# EAGLE library part DSPIC33FJ*MC708 (library Microchip)
dsPIC High-Performance 16-Bit Digital Signal Controller
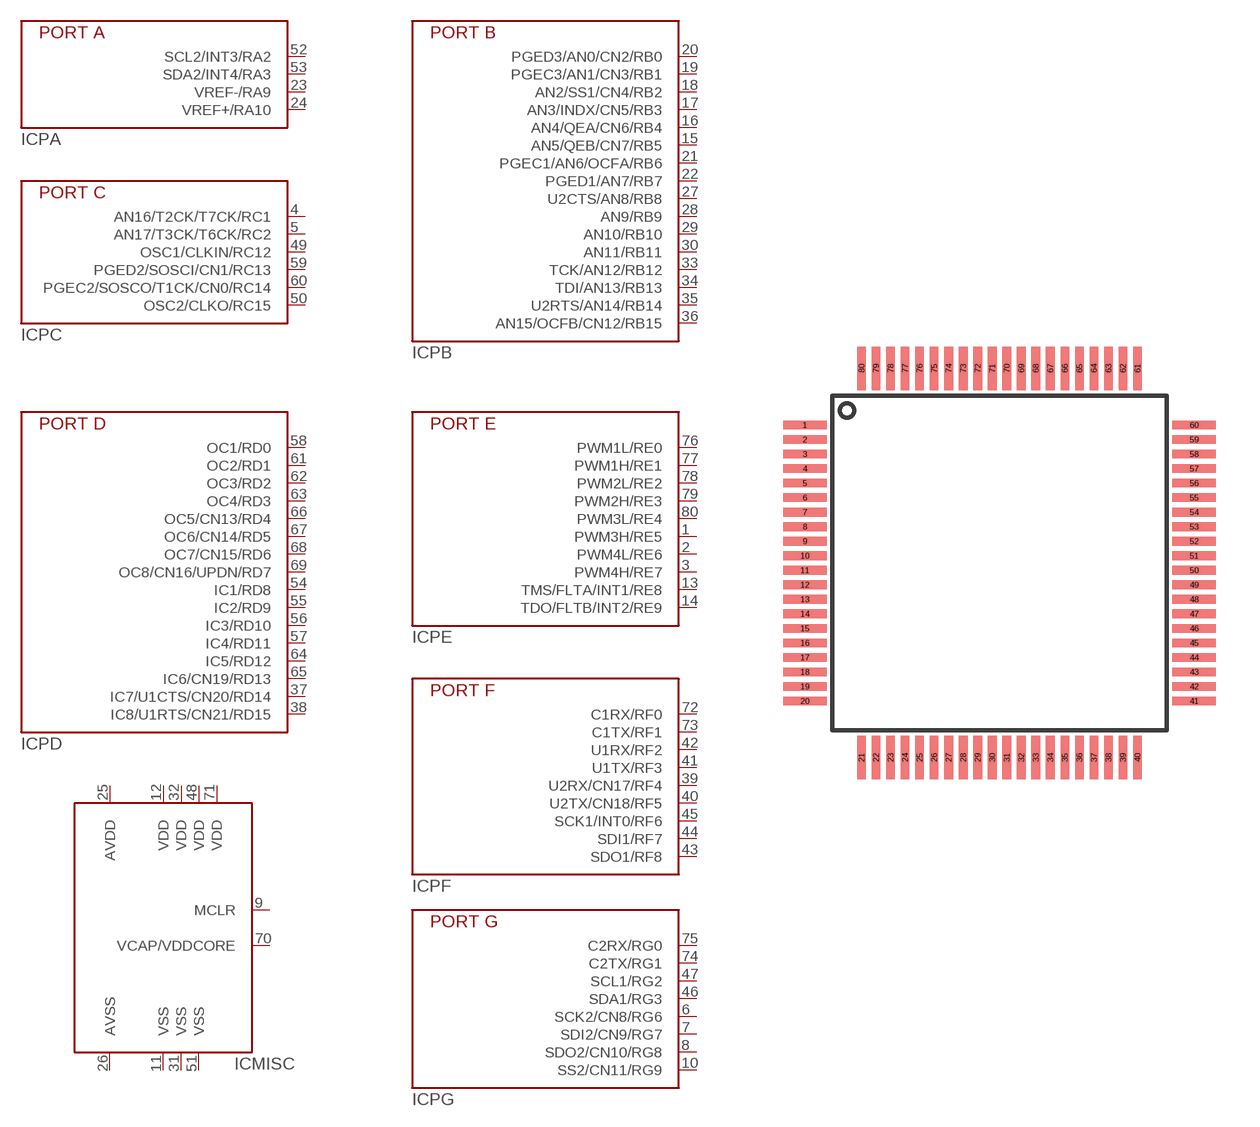
[diagram p28: symbol with the pads of TQ80-PT; footprint TQ80-PT]

Designator prefix IC; gates PA=DSPIC33FJXXXMC708-PA PB=DSPIC33FJXXXMC708-PB PC=DSPIC33FJXXXMC708-PC PD=DSPIC33FJXXXMC708-PD PE=DSPIC33FJXXXMC708-PE PF=DSPIC33FJXXXMC708-PF PG=DSPIC33FJXXXMC708-PG MISC=DSPIC33FJXXXMC708-MISC

## DSPIC33FJ64MC708-PT, DSPIC33FJ128MC708-PT  [TQ80-PT]
1  PE:PWM3H/RE5
2  PE:PWM4L/RE6
3  PE:PWM4H/RE7
4  PC:AN16/T2CK/T7CK/RC1
5  PC:AN17/T3CK/T6CK/RC2
6  PG:SCK2/CN8/RG6
7  PG:SDI2/CN9/RG7
8  PG:SDO2/CN10/RG8
9  MISC:MCLR
10  PG:SS2/CN11/RG9
11  MISC:VSS
12  MISC:VDD
13  PE:TMS/FLTA/INT1/RE8
14  PE:TDO/FLTB/INT2/RE9
15  PB:AN5/QEB/CN7/RB5
16  PB:AN4/QEA/CN6/RB4
17  PB:AN3/INDX/CN5/RB3
18  PB:AN2/SS1/CN4/RB2
19  PB:PGEC3/AN1/CN3/RB1
20  PB:PGED3/AN0/CN2/RB0
21  PB:PGEC1/AN6/OCFA/RB6
22  PB:PGED1/AN7/RB7
23  PA:VREF-/RA9
24  PA:VREF+/RA10
25  MISC:AVDD
26  MISC:AVSS
27  PB:U2CTS/AN8/RB8
28  PB:AN9/RB9
29  PB:AN10/RB10
30  PB:AN11/RB11
31  MISC:VSS
32  MISC:VDD
33  PB:TCK/AN12/RB12
34  PB:TDI/AN13/RB13
35  PB:U2RTS/AN14/RB14
36  PB:AN15/OCFB/CN12/RB15
37  PD:IC7/U1CTS/CN20/RD14
38  PD:IC8/U1RTS/CN21/RD15
39  PF:U2RX/CN17/RF4
40  PF:U2TX/CN18/RF5
41  PF:U1TX/RF3
42  PF:U1RX/RF2
43  PF:SDO1/RF8
44  PF:SDI1/RF7
45  PF:SCK1/INT0/RF6
46  PG:SDA1/RG3
47  PG:SCL1/RG2
48  MISC:VDD
49  PC:OSC1/CLKIN/RC12
50  PC:OSC2/CLKO/RC15
51  MISC:VSS
52  PA:SCL2/INT3/RA2
53  PA:SDA2/INT4/RA3
54  PD:IC1/RD8
55  PD:IC2/RD9
56  PD:IC3/RD10
57  PD:IC4/RD11
58  PD:OC1/RD0
59  PC:PGED2/SOSCI/CN1/RC13
60  PC:PGEC2/SOSCO/T1CK/CN0/RC14
61  PD:OC2/RD1
62  PD:OC3/RD2
63  PD:OC4/RD3
64  PD:IC5/RD12
65  PD:IC6/CN19/RD13
66  PD:OC5/CN13/RD4
67  PD:OC6/CN14/RD5
68  PD:OC7/CN15/RD6
69  PD:OC8/CN16/UPDN/RD7
70  MISC:VCAP/VDDCORE
71  MISC:VDD
72  PF:C1RX/RF0
73  PF:C1TX/RF1
74  PG:C2TX/RG1
75  PG:C2RX/RG0
76  PE:PWM1L/RE0
77  PE:PWM1H/RE1
78  PE:PWM2L/RE2
79  PE:PWM2H/RE3
80  PE:PWM3L/RE4

## Footprint TQ80-PT (pad centres in mm)
80-Lead Plastic Thin Quad Flatpack (PT) - 12x12x1 mm body, 2.00mm [TQFP]
smd 1.5 x 0.3: 1 -6.7,4.75; 2 -6.7,4.25; 3 -6.7,3.75; 4 -6.7,3.25; 5 -6.7,2.75; 6 -6.7,2.25; 7 -6.7,1.75; 8 -6.7,1.25; 9 -6.7,0.75; 10 -6.7,0.25; 11 -6.7,-0.25; 12 -6.7,-0.75; 13 -6.7,-1.25; 14 -6.7,-1.75; 15 -6.7,-2.25; 16 -6.7,-2.75; 17 -6.7,-3.25; 18 -6.7,-3.75; 19 -6.7,-4.25; 20 -6.7,-4.75; 41 6.7,-4.75; 42 6.7,-4.25; 43 6.7,-3.75; 44 6.7,-3.25; 45 6.7,-2.75; 46 6.7,-2.25; 47 6.7,-1.75; 48 6.7,-1.25; 49 6.7,-0.75; 50 6.7,-0.25; 51 6.7,0.25; 52 6.7,0.75; 53 6.7,1.25; 54 6.7,1.75; 55 6.7,2.25; 56 6.7,2.75; 57 6.7,3.25; 58 6.7,3.75; 59 6.7,4.25; 60 6.7,4.75
smd 0.3 x 1.5: 21 -4.75,-6.7; 22 -4.25,-6.7; 23 -3.75,-6.7; 24 -3.25,-6.7; 25 -2.75,-6.7; 26 -2.25,-6.7; 27 -1.75,-6.7; 28 -1.25,-6.7; 29 -0.75,-6.7; 30 -0.25,-6.7; 31 0.25,-6.7; 32 0.75,-6.7; 33 1.25,-6.7; 34 1.75,-6.7; 35 2.25,-6.7; 36 2.75,-6.7; 37 3.25,-6.7; 38 3.75,-6.7; 39 4.25,-6.7; 40 4.75,-6.7; 61 4.75,6.7; 62 4.25,6.7; 63 3.75,6.7; 64 3.25,6.7; 65 2.75,6.7; 66 2.25,6.7; 67 1.75,6.7; 68 1.25,6.7; 69 0.75,6.7; 70 0.25,6.7; 71 -0.25,6.7; 72 -0.75,6.7; 73 -1.25,6.7; 74 -1.75,6.7; 75 -2.25,6.7; 76 -2.75,6.7; 77 -3.25,6.7; 78 -3.75,6.7; 79 -4.25,6.7; 80 -4.75,6.7